# EAGLE library part STF203-XX (library m-pad-2.1)
SEMTECH's STF203-xx USB Upstream Port Filter and TVS For EMI Filtering and ESD Protection The STF203 is a combination EMI filter and line termination device with integrated TVS diodes for use on upstream USB ports. It is constructed using a proprietary technology that allows passive components and TVS diodes to be integrated in the same package. Each device will provide termination, filtering, and ESD protection for one upstream USB port. The STF203 is an easily implemented solution for meeting the requirements of revision 1.1 of the Universal Serial Bus specification. Line termination is achieved with series resistors on both the D+ and D- USB lines. The value of series resistance added to the output impedance of the USB driver must be as close to possible to the 45 Ohm characteristic impedance of the cable (90Ohm balanced) to minimize transmission line reflections. They are available with resistor values of 15Ohm (STF203-15), 22Ohm (STF203-22), and 33Ohm (STF203-33). The 1.5kOhm pull-up resistor is required by the USB specification to identify the equipment as either a full-speed (connected to D+ line) or low-speed (connected to Dline) device. The 47pF capacitors are required to bypass high frequency energy to ground and to control the edge rate of the USB signals. The TVS diodes provide ESD protection of both (D+ and D-) data lines and the voltage bus (VBUS). The TVS diodes on the input/output pins provide suppression of ESD voltages in excess of ±15kV (air discharge) and ±8kV (contact discharge) per IEC 61000-4-2, level 4. The TVS diode on the VBUS pin will suppress ESD discharges in excess of 25kV per IEC 61000-4-2. Features: Bidirectional EMI/RFI filtering and line termination with integrated ESD protection ESD protection for USB power (VBUS) and data lines (D+ and D-) to IEC 61000-4-2 (ESD) ±15kV (air), ±8kV (contact) IEC 61000-4-4 (EFT) 40A (5/50ns) Filtering and termination for one USB port Series resistors: 15?, 22?, and 33? Low TVS operating voltage (5.25V) Low leakage current Small SC70-6L package Solid-state technology EIAJ SC70-6L package Mechanical Characteristics: RoHS/WEEE Compliant Molding compound flammability rating: UL 94V-0 Marking : Marking Code Packaging : Tape and Reel per EIA 481 Applications: USB Ports Cellular Handsets PDAs Pagers Digital Cameras PC Peripherals MP3 Players Please send any comments to: messi@users.sourceforge.net
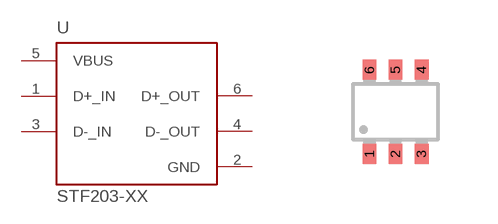
[diagram p188: symbol with the pads of SC-70-6; footprint SC-70-6]

Designator prefix U

## STF203-XX  [SC-70-6]
1  D+_IN  pas
2  GND  pas
3  D-_IN  pas
4  D-_OUT  pas
5  VBUS  pas
6  D+_OUT  pas

## Footprint SC-70-6 (pad centres in mm)
Texas Instruments Package SC-70-6 (-DCK)
smd 0.35 x 0.5: 1 -0.65,-1.05; 2 0,-1.05; 3 0.65,-1.05; 4 0.65,1.05; 5 0,1.05; 6 -0.65,1.05